# Altium schematic symbol library Glove.SchLib: 24 symbols
Pins are listed as number, name and electrical type; pins without a type are passive.

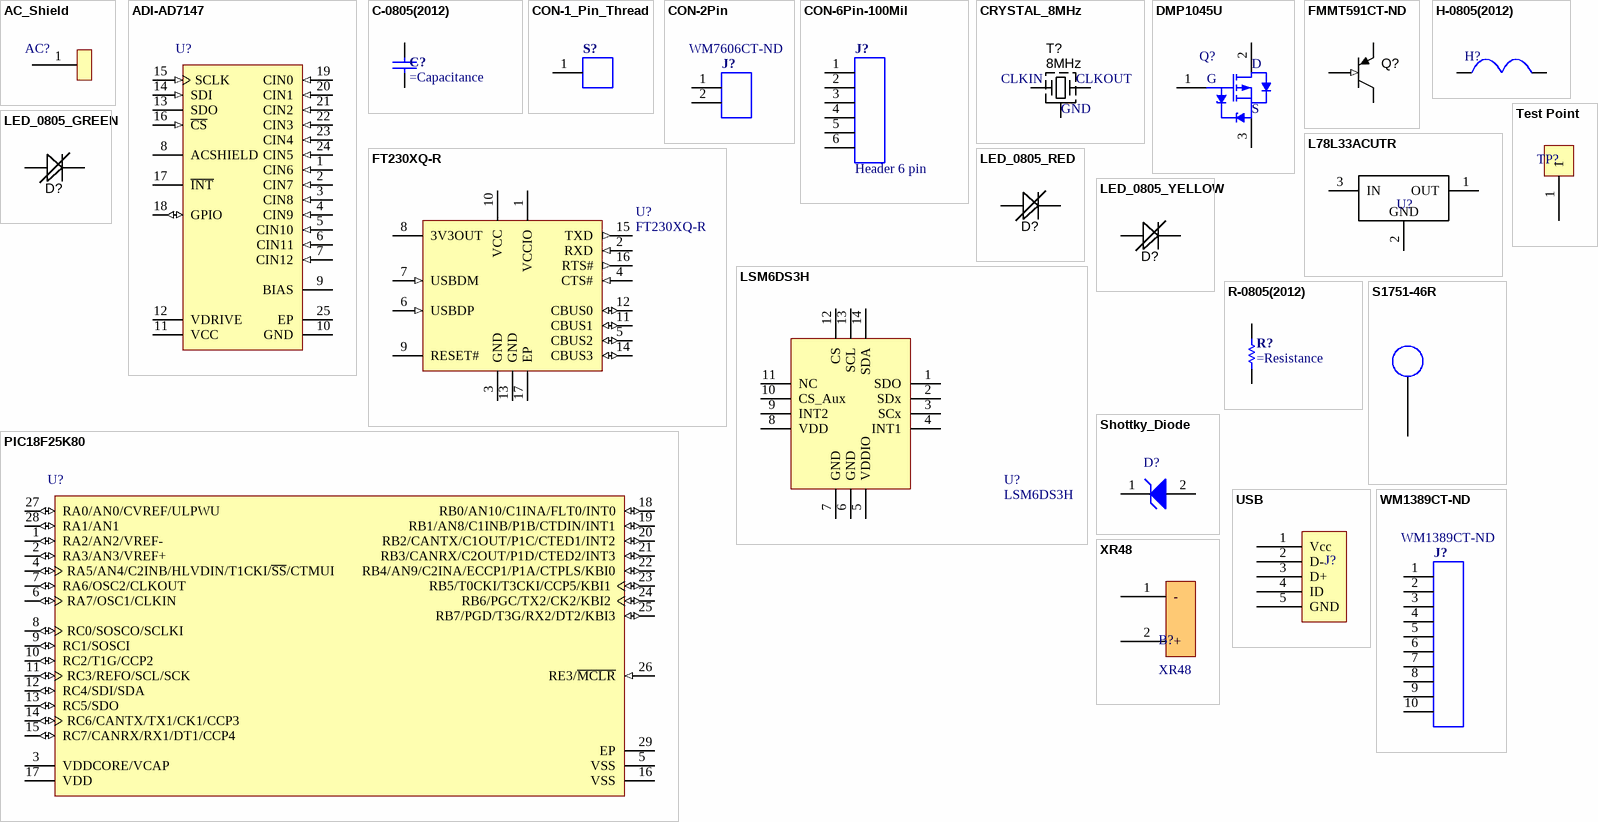
[diagram p0: symbols AC_Shield to XR48]

## AC_Shield
designator AC?  (value not drawn)
footprint AC_SHIELD
pins: 1 9

## ADI-AD7147
designator U?
Manufacturer: Analog Devices Inc.; Manufacturer Part Number: AD7147PACPZ-500R7; Resolution (Bits): 16 b; Sampling Rate (Per Second): 250k; Data Interface: SPI; Voltage Supply Source: Single Supply; Voltage - Supply: 2.6 V ~ 3.6 V; Supplier 1: Digi-Key; RoHS: RoHS Compliant; Category: Integrated Circuits (ICs); Stock 1: 559; Pricing 1: 1=3.6, 10=3.236, 100=2.6512 (USD); Packaging: Cut Tape (CT); Part Status: Active; Type: Capacitance-to-Digital Converter; Operating Temperature: -40°C ~ 85°C; Mounting Type: Surface Mount; Package / Case: 24-WFQFN Exposed Pad, CSP; Supplier Device Package: 24-LFCSP-WQ (4x4); ComponentLink1URL: http://www.analog.com/media/en/technical-documentation/data-sheets/AD7147.pdf; ComponentLink1Description: http://www.analog.com/media/en/technical-documentation/data-sheets/AD7147.pdf; Supplier Part Number 1: AD7147PACPZ-500R7CT-ND
footprint LFCSP_WQ (QFN, 24-Leads, Body 4x4mm, Pitch 0.5mm, Thermal Pad 2.5x2.5mm, IPC Medium Density)
pins: 1 CIN6 (in) "Capacitance Sensor Input.", 2 CIN7 (in) "Capacitance Sensor Input.", 3 CIN8 (in) "Capacitance Sensor Input.", 4 CIN9 (in) "Capacitance Sensor Input.", 5 CIN10 (in) "Capacitance Sensor Input.", 6 CIN11 (in) "Capacitance Sensor Input.", 7 CIN12 (in) "Capacitance Sensor Input.", 8 ACSHIELD "CDC Active Shield Output. Connect to external shield or plane.", 9 BIAS "Bias Node for Internal Circuitry. Requires 100 nF capacitor to ground.", 10 GND (power) "Ground Reference Point for All Circuitry.", 11 VCC (power) "Supply Voltage.", 12 VDRIVE (power) "Serial Interface Operating Voltage Supply.", 13 SDO (hiz) "SPI Serial Data Output.", 14 SDI (in) "SPI Serial Data Input.", 15 SCLK (in) "Clock Input for Serial Interface.", 16 ~{CS} (in) "SPI Chip Select Signal.", 17 ~{INT} (oc) "General-Purpose Open-Drain Interrupt Output. Programmable polarity; requires pull-up resistor.", 18 GPIO (io) "Programmable GPIO.", 19 CIN0 (in) "Capacitance Sensor Input.", 20 CIN1 (in) "Capacitance Sensor Input.", 21 CIN2 (in) "Capacitance Sensor Input.", 22 CIN3 (in) "Capacitance Sensor Input.", 23 CIN4 (in) "Capacitance Sensor Input.", 24 CIN5 (in) "Capacitance Sensor Input.", 25 EP (power) "Capacitance Sensor Input."

## C-0805(2012)
designator C?
___ OHM ___ mW 0805(2012) SMD
footprint CAP-0805(2012)-R (Capacitor 0805(2012) Reflow)
pins: 1, 2

## CON-1_Pin_Thread
designator S?, comment Conductive Thread  (value not drawn)
Header, 1 pin, Conductive Thread
footprint THREAD_HOLE (MAGNETIC_THREAD_HOLE)
pins: 1

## CON-2Pin
designator J?, comment Supplier Part Number 1: WM7606CT-ND  (hidden comment: Header 2 pin)
Header, 2 pin, .1 pitch; Manufacturer: Molex, LLC; Manufacturer Part Number: 0533980271; Pitch - Mating: 0.049" (1.25mm); Style: Board to Cable/Wire; Shrouding: Shrouded - 3 Wall; Number of Positions: 2; Number of Positions Loaded: All; Material Flammability Rating: UL94 V-0; Supplier 1: Digi-Key; RoHS: RoHS Compliant; Category: Connectors, Interconnects; Stock 1: 38010; Pricing 1: 1=1.07, 10=0.941, 25=0.886, 50=0.849, 100=0.8122, 250=0.73832, 500=0.66448 (USD); Packaging: Cut Tape (CT); Part Status: Active; Connector Type: Header; Contact Type: Male Blade; Number of Rows: 1; Row Spacing - Mating: -; Mounting Type: Surface Mount; Termination: Solder; Fastening Type: Detent Lock; Contact Length - Mating: -; Contact Length - Post: -; Overall Contact Length: -; Insulation Height: 0.185" (4.70mm); Contact Shape: Rectangular; Contact Finish - Mating: Tin; Contact Finish Thickness - Mating: 39µin (1.00µm); Features: Solder Retention; Ingress Protection: -; Insulation Color: Natural; Contact Finish - Post: Tin; Contact Material: Phosphor Bronze; Insulation Material: Polyamide (PA), Nylon; Operating Temperature: -; Current Rating: -; Voltage Rating: -; Mated Stacking Heights: -; Contact Finish Thickness - Post: -; Applications: Automotive, General Purpose, Industrial, Medical; ComponentLink1URL: http://www.molex.com/pdm_docs/sd/533980271_sd.pdf; ComponentLink1Description: http://www.molex.com/pdm_docs/sd/533980271_sd.pdf
footprint WM7606CT-ND
pins: 1, 2

## CON-6Pin-100Mil
designator J?, comment Header 6 pin
Header, 6 pin, .1 pitch; Manufacturer: Amphenol FCI; Manufacturer Part Number: 68000-406HLF; Pitch - Mating: 0.100" (2.54mm); Style: Board to Board; Shrouding: Unshrouded; Number of Positions: 6; Number of Positions Loaded: All; Contact Length - Mating: 0.230" (5.84mm); Contact Length - Post: 0.095" (2.41mm); Overall Contact Length: 0.425" (10.80mm); Material Flammability Rating: UL94 V-0; Supplier 1: Digi-Key; RoHS: RoHS Compliant; Category: Connectors, Interconnects; Stock 1: 11680; Pricing 1: 1=0.25, 10=0.233, 100=0.1615, 500=0.13662, 1000=0.11178, 5000=0.09936, 10000=0.09005 (USD); Packaging: Bulk; Part Status: Active; Connector Type: Header; Contact Type: Male Pin; Number of Rows: 1; Row Spacing - Mating: -; Mounting Type: Through Hole; Termination: Solder; Fastening Type: -; Insulation Height: 0.100" (2.54mm); Contact Shape: Square; Contact Finish - Mating: Tin; Contact Finish Thickness - Mating: 100µin (2.54µm); Contact Finish - Post: Tin; Contact Material: Phosphor Bronze; Insulation Material: -; Features: -; Operating Temperature: -; Ingress Protection: -; Insulation Color: Black; Current Rating: -; Voltage Rating: -; Mated Stacking Heights: -; Contact Finish Thickness - Post: -; Applications: -; ComponentLink1URL: http://portal.fciconnect.com/Comergent//fci/drawing/68000.pdf; ComponentLink1Description: http://portal.fciconnect.com/Comergent//fci/drawing/68000.pdf; Supplier Part Number 1: 609-3263-ND
footprint HEADER-6-100mil (100 mil spacing)
pins: 1, 2, 3, 4, 5, 6

## CRYSTAL_8MHz
designator T?, comment 8MHz
Oscillator Crystal 8MHz 10ppm; Manufacturer: Abracon LLC; Manufacturer Part Number: ABMM2-8.000MHZ-E2-T; Type: MHz Crystal; Frequency Stability: ±20ppm; Load Capacitance: 18pF; ESR (Equivalent Series Resistance): 72 Ohm; Operating Mode: Fundamental; Supplier 1: Digi-Key; RoHS: RoHS Compliant; Category: Crystals, Oscillators, Resonators; Stock 1: 56825; Pricing 1: 1=0.82, 10=0.721, 50=0.674, 100=0.5957, 500=0.5643 (USD); Packaging: Cut Tape (CT); Part Status: Active; Frequency: 8MHz; Frequency Tolerance: ±20ppm; Operating Temperature: -20°C ~ 70°C; Ratings: -; Mounting Type: Surface Mount; Package / Case: 4-SMD, No Lead; Size / Dimension: 0.240" L x 0.142" W (6.00mm x 3.60mm); Height - Seated (Max): 0.047" (1.20mm); ComponentLink1URL: http://www.abracon.com/Resonators/ABMM2.pdf; ComponentLink1Description: http://www.abracon.com/Resonators/ABMM2.pdf; Supplier Part Number 1: 535-9628-1-ND
footprint CRYSTAL-8MHZ (ABRACON ABMM2-8.000MHZ-E2-T)
pins: 1 CLKIN, 2 GND, 3 X
text: CLKOUT

## DMP1045U
designator Q?
Manufacturer: Diodes; Manufacturer Part Number: DMP1045U-7; Rise Time: 23.3ns; Rds On Max: 31mR; Input Capacitance: 1.357nF; Continuous Drain Current (ID): 4A; Drain to Source Voltage (Vdss): 12V; Max Power Dissipation: 800mW; Gate to Source Voltage (Vgs): 8V; Fall Time: 106.9ns; Turn-Off Delay Time: 91.2ns; Turn-On Delay Time: 15.7ns; Number of Elements: 1; Power Dissipation: 1.3W; Element Configuration: Single; Drain to Source Breakdown Voltage: -12V; Supplier 1: Mouser; Stock 1: 5719; Pricing 1: 1=0.43, 10=0.298, 50=0.298, 100=0.137, 1000=0.105, 10000=0.082 (USD); Mount: Surface Mount; Case/Package: SOT-23; Number of Pins: 3; Weight: 0.000282oz; Contact Plating: Tin; Min Operating Temperature: -55°C; Max Operating Temperature: 150°C; Package Quantity: 3000; Packaging: Tape and Reel; Drain to Source Resistance: 31mR; Number of Channels: 1; Length: 3mm; Height: 1.1mm; Width: 1.4mm; Radiation Hardening: No; REACH SVHC: No SVHC; Lead Free: Lead Free; ComponentLink1URL: https://datasheet.ciiva.com/11176/dmp1045u-11176581.pdf; ComponentLink1Description: https://datasheet.ciiva.com/11176/dmp1045u-11176581.pdf; ComponentLink2URL: https://datasheet.ciiva.com/17323/dmp1045u-17323644.pdf; ComponentLink2Description: https://datasheet.ciiva.com/17323/dmp1045u-17323644.pdf; ComponentLink3URL: https://datasheet.ciiva.com/18648/dmp1045u-18648300.pdf; ComponentLink3Description: https://datasheet.ciiva.com/18648/dmp1045u-18648300.pdf; Supplier Part Number 1: 621-DMP1045U-7
footprint SOT23-3 (SOT23, 3 pin)
pins: 1 G "gate", 2 D "drain", 3 S "source"

## FMMT591CT-ND
designator Q?
Transistor PNP; Manufacturer: Diodes Incorporated; Manufacturer Part Number: FMMT591TA; Current - Collector (Ic) (Max): 1A; Voltage - Collector Emitter Breakdown (Max): 60V; Vce Saturation (Max) @ Ib, Ic: 350mV @ 100mA, 1A; Current - Collector Cutoff (Max): 100nA; DC Current Gain (hFE) (Min) @ Ic, Vce: 100 @ 500mA, 5V; Power - Max: 500mW; Frequency - Transition: 150MHz; Supplier 1: Digi-Key; RoHS: RoHS Compliant; Category: Discrete Semiconductor Products; Stock 1: 2485; Pricing 1: 1=0.45, 10=0.363, 100=0.2472, 500=0.1854, 1000=0.13905 (USD); Packaging: Cut Tape (CT); Part Status: Active; Transistor Type: PNP; Operating Temperature: -55°C ~ 150°C (TJ); Mounting Type: Surface Mount; Package / Case: TO-236-3, SC-59, SOT-23-3; Supplier Device Package: SOT-23-3; ComponentLink1URL: http://www.diodes.com/_files/datasheets/FMMT591.pdf; ComponentLink1Description: http://www.diodes.com/_files/datasheets/FMMT591.pdf; Supplier Part Number 1: FMMT591CT-ND
footprint SOT23-3 (SOT23, 3 pin)
pins: 1 B (in), 2 C, 3 E

## FT230XQ-R
designator U?
USB to Basic UART Interface Chip, UHCI/OHCI/EHCI Compatible, USB 2.0 Compatible, -40 to +85 degC, 16-Pin QFN, Pb-Free, Tape and Reel; Manufacturer: FTDI, Future Technology Devices International Ltd; Function: Bridge, USB to UART; Standards: USB 2.0; Voltage - Supply: 3.3 V ~ 5 V; Current - Supply: 8mA; Supplier 1: Digi-Key; Manufacturer Part Number: FT230XQ-R; RoHS: RoHS Compliant; Category: Integrated Circuits (ICs); Stock 1: 40408; Pricing 1: 1=2.3, 25=1.97, 100=1.9, 250=1.71, 500=1.55, 1000=1.53001 (USD); Packaging: Cut Tape (CT); Part Status: Active; Protocol: USB; Interface: UART; Operating Temperature: -40°C ~ 85°C; Package / Case: 16-WQFN Exposed Pad; Supplier Device Package: 16-QFN (4x4); ComponentLink1URL: http://www.ftdichip.com/Support/Documents/DataSheets/ICs/DS_FT230X.pdf; ComponentLink1Description: http://www.ftdichip.com/Support/Documents/DataSheets/ICs/DS_FT230X.pdf; Supplier Part Number 1: 768-1130-1-ND
footprint QFN-16
pins: 1 VCCIO (power) "1V8 -3V3 supply for the IO cells.", 2 RXD (in) "Receiving Asynchronous Data Input.", 3 GND (power) "0V Ground input.", 4 CTS# (in) "Clear To Send Control Input / Handshake Signal.", 5 CBUS2 (io) "Configurable CBUS I/O Pin. Function of this pin is configured in the device MTP memory. The default configuration is TXLED#.", 6 USBDP (in) "USB Data Signal Plus.", 7 USBDM (in) "USB Data Signal Minus.", 8 3V3OUT (power) "3V3 output at 50mA. May be used to power VCCIO. When VCC is 3V3; pin 8 is an input pin and should be connected to pin 10.", 9 RESET# "Reset input (active low).", 10 VCC (power) "5 V (or 3V3) supply to IC.", 11 CBUS1 (io) "Configurable CBUS I/O Pin. Function of this pin is configured in the device MTP memory. The default configuration is RXLED#.", 12 CBUS0 (io) "Configurable CBUS I/O Pin. Function of this pin is configured in the device MTP memory. The default configuration is TXDEN.", 13 GND (power) "0V Ground input.", 14 CBUS3 (io) "Configurable CBUS I/O Pin. Function of this pin is configured in the device MTP memory. The default configuration is SLEEP#.", 15 TXD (out) "Transmit Asynchronous Data Output.", 16 RTS# (out) "Request to Send Control Output / Handshake Signal.", 17 EP (power) "Exposed Pad. Connect to GND."

## H-0805(2012)
designator H?  (value not drawn)
footprint H-0805(2012)-H (Inductor 0805(2012) Reflow)
pins: 1, 2

## L78L33ACUTR
designator U?  (value not drawn)
Manufacturer: STMicroelectronics; Manufacturer Part Number: L78L33ACUTR; Regulator Topology: Positive Fixed; Voltage - Output: 3.3V; Current - Output: 100mA; Voltage - Dropout (Typical): 1.7V @ 40mA; Voltage - Input: Up to 30V; Supplier 1: Digi-Key; RoHS: RoHS Compliant; Category: Integrated Circuits (ICs); Stock 1: 46216; Pricing 1: 1=0.43, 10=0.349, 100=0.2373, 500=0.17798, 1000=0.13349 (USD); Packaging: Cut Tape (CT); Part Status: Active; Current - Limit (Min): -; Operating Temperature: 0°C ~ 125°C; Mounting Type: Surface Mount; Package / Case: TO-243AA; Supplier Device Package: SOT-89-3; ComponentLink1URL: http://www.st.com/content/ccc/resource/technical/document/datasheet/15/55/e5/aa/23/5b/43/fd/CD00000446.pdf/files/CD00000446.pdf/jcr:content/translations/en.CD00000446.pdf; ComponentLink1Description: http://www.st.com/content/ccc/resource/technical/document/datasheet/15/55/e5/aa/23/5b/43/fd/CD00000446.pdf/files/CD00000446.pdf/jcr:content/translations/en.CD00000446.pdf; Supplier Part Number 1: 497-1200-1-ND
footprint SOT89-3 (JEDEC TO-243 option AA / SOT89)
pins: 1 OUT (power), 2 GND (power), 3 IN

## LED_0805_GREEN
designator D?, comment GREEN  (value not drawn)
LED, 0805 SMD, GREEN; Manufacturer: OSRAM Opto Semiconductors Inc.; Manufacturer Part Number: LG R971-KN-1; Lens Color: White; Lens Transparency: Diffused; Millicandela Rating: 26.05mcd; Lens Style/Size: Rectangle with Flat Top, 1.30mm x 1.25mm; Voltage - Forward (Vf) (Typ): 2.2V; Current - Test: 20mA; Viewing Angle: 160°; Wavelength - Dominant: 570nm; Wavelength - Peak: 572nm; Supplier 1: Digi-Key; RoHS: RoHS Compliant; Category: Optoelectronics; Stock 1: 332799; Pricing 1: 1=0.25, 10=0.18, 25=0.1328, 100=0.0948, 250=0.06448, 500=0.0569, 1000=0.04457 (USD); Packaging: Cut Tape (CT); Part Status: Active; Color: Green; Mounting Type: Surface Mount; Features: -; Package / Case: 0805 (2012 Metric); Size / Dimension: 2.00mm L x 1.25mm W; Height (Max): 0.90mm; ComponentLink1URL: http://www.osram-os.com/Graphics/XPic9/00078860_0.pdf; ComponentLink1Description: http://www.osram-os.com/Graphics/XPic9/00078860_0.pdf; Supplier Part Number 1: 475-1410-1-ND
footprint LED-0805-A
pins: A, K

## LED_0805_RED
designator D?, comment Red  (value not drawn)
LED, 0805 SMD, Red; Manufacturer: OSRAM Opto Semiconductors Inc.; Manufacturer Part Number: LS R976-NR-1; Lens Color: White; Lens Transparency: Diffused; Millicandela Rating: 104mcd; Lens Style/Size: Rectangle with Flat Top, 1.30mm x 1.25mm; Voltage - Forward (Vf) (Typ): 2V; Current - Test: 20mA; Viewing Angle: 160°; Wavelength - Dominant: 633nm; Wavelength - Peak: 645nm; Supplier 1: Digi-Key; RoHS: RoHS Compliant; Category: Optoelectronics; Stock 1: 162363; Pricing 1: 1=0.26, 10=0.19, 25=0.1396, 100=0.0998, 250=0.06788, 500=0.0599, 1000=0.04692 (USD); Packaging: Cut Tape (CT); Part Status: Active; Color: Red; Mounting Type: Surface Mount; Features: -; Package / Case: 0805 (2012 Metric); Size / Dimension: 2.00mm L x 1.25mm W; Height (Max): 0.90mm; ComponentLink1URL: http://www.osram-os.com/Graphics/XPic8/00078896_0.pdf; ComponentLink1Description: http://www.osram-os.com/Graphics/XPic8/00078896_0.pdf; Supplier Part Number 1: 475-1278-1-ND
footprint LED-0805-A
pins: A, K

## LED_0805_YELLOW
designator D?, comment YELLOW  (value not drawn)
LED, 0805 SMD, YELLOW; Manufacturer: OSRAM Opto Semiconductors Inc.; Manufacturer Part Number: LY R976-PS-36; Lens Color: White; Lens Transparency: Diffused; Millicandela Rating: 162.5mcd; Lens Style/Size: Rectangle with Flat Top, 1.30mm x 1.25mm; Voltage - Forward (Vf) (Typ): 2V; Current - Test: 20mA; Viewing Angle: 160°; Wavelength - Dominant: 588nm; Wavelength - Peak: 591nm; Supplier 1: Digi-Key; RoHS: RoHS Compliant; Category: Optoelectronics; Stock 1: 77170; Pricing 1: 1=0.26, 10=0.19, 25=0.1396, 100=0.0998, 250=0.06788, 500=0.0599, 1000=0.04692 (USD); Packaging: Cut Tape (CT); Part Status: Active; Color: Yellow; Mounting Type: Surface Mount; Features: -; Package / Case: 0805 (2012 Metric); Supplier Device Package: 0805; Size / Dimension: 2.00mm L x 1.25mm W; Height (Max): 0.90mm; ComponentLink1URL: http://www.osram-os.com/Graphics/XPic9/00078941_0.pdf; ComponentLink1Description: http://www.osram-os.com/Graphics/XPic9/00078941_0.pdf; Supplier Part Number 1: 475-2560-1-ND
footprint LED-0805-A
pins: A, K

## LSM6DS3H
designator U?
3D accelerometer and 3D gyroscope; Manufacturer: STMicroelectronics; Manufacturer Part Number: LSM6DS3HTR; Sensor Type: Accelerometer, Gyroscope, Temperature, 6 Axis; Output Type: I²C, SPI; Supplier 1: Digi-Key; RoHS: RoHS Compliant; Category: Sensors, Transducers; Stock 1: 34853; Pricing 1: 1=3.98, 10=3.572, 100=2.9264 (USD); Part Status: Active; Operating Temperature: -40°C ~ 85°C (TA); ComponentLink1URL: http://www.st.com/content/ccc/resource/technical/document/datasheet/group0/38/96/79/af/ab/62/42/c3/DM00229854/files/DM00229854.pdf/jcr:content/translations/en.DM00229854.pdf; ComponentLink1Description: http://www.st.com/content/ccc/resource/technical/document/datasheet/group0/38/96/79/af/ab/62/42/c3/DM00229854/files/DM00229854.pdf/jcr:content/translations/en.DM00229854.pdf; Supplier Part Number 1: 497-16367-1-ND
footprint LGA-14 (LGA-14 2.5X3X0.86 14L)
pins: 1 SDO, 2 SDx, 3 SCx, 4 INT1, 5 VDDIO, 6 GND, 7 GND, 8 VDD, 9 INT2, 10 CS_Aux, 11 NC, 12 CS, 13 SCL, 14 SDA

## PIC18F25K80
designator U?
Manufacturer: Microchip Technology; Manufacturer Part Number: PIC18F25K80T-I/MM; Core Processor: PIC; Core Size: 8-Bit; Speed: 64MHz; Connectivity: ECAN, I²C, LIN, SPI, UART/USART; Peripherals: Brown-out Detect/Reset, LVD, POR, PWM, WDT; Number of I/O: 24; Program Memory Size: 32KB (16K x 16); Program Memory Type: FLASH; EEPROM Size: 1K x 8; RAM Size: 3.6K x 8; Voltage - Supply (Vcc/Vdd): 1.8 V ~ 5.5 V; Data Converters: A/D 8x12b; Oscillator Type: Internal; Supplier 1: Digi-Key; RoHS: RoHS Compliant; Category: Integrated Circuits (ICs); Stock 1: 1981; Pricing 1: 1=2.86, 25=2.6264, 100=2.3793 (USD); Packaging: Cut Tape (CT); Part Status: Active; Operating Temperature: -40°C ~ 85°C (TA); Package / Case: 28-VQFN Exposed Pad; Supplier Device Package: 28-QFN-S (6x6); ComponentLink1URL: http://www.microchip.com/mymicrochip/filehandler.aspx?ddocname=en552714; ComponentLink1Description: http://www.microchip.com/mymicrochip/filehandler.aspx?ddocname=en552714; Supplier Part Number 1: PIC18F25K80T-I/MMCT-ND
footprint MCHP-QFN-S-MM28_N (QFN, 28-Leads, Body 6x6mm, Pitch 0.65mm, Thermal Pad 4.175x4.175mm, IPC Medium Density)
pins: 1 RA2/AN2/VREF- (io), 2 RA3/AN3/VREF+ (io), 3 VDDCORE/VCAP (power), 4 RA5/AN4/C2INB/HLVDIN/T1CKI/~{SS}/CTMUI (io), 5 VSS (power) "Ground reference for logic and I/O pins.", 6 RA7/OSC1/CLKIN (io), 7 RA6/OSC2/CLKOUT (io), 8 RC0/SOSCO/SCLKI (io), 9 RC1/SOSCI (io), 10 RC2/T1G/CCP2 (io), 11 RC3/REFO/SCL/SCK (io), 12 RC4/SDI/SDA (io), 13 RC5/SDO (io), 14 RC6/CANTX/TX1/CK1/CCP3 (io), 15 RC7/CANRX/RX1/DT1/CCP4 (io), 16 VSS (power) "Ground reference for logic and I/O pins.", 17 VDD (power) "Positive supply for logic and I/O pins.", 18 RB0/AN10/C1INA/FLT0/INT0 (io), 19 RB1/AN8/C1INB/P1B/CTDIN/INT1 (io), 20 RB2/CANTX/C1OUT/P1C/CTED1/INT2 (io), 21 RB3/CANRX/C2OUT/P1D/CTED2/INT3 (io), 22 RB4/AN9/C2INA/ECCP1/P1A/CTPLS/KBI0 (io), 23 RB5/T0CKI/T3CKI/CCP5/KBI1 (io), 24 RB6/PGC/TX2/CK2/KBI2 (io), 25 RB7/PGD/T3G/RX2/DT2/KBI3 (io), 26 RE3/~{MCLR} (in), 27 RA0/AN0/CVREF/ULPWU (io), 28 RA1/AN1 (io), 29 EP (power)

## R-0805(2012)
designator R?
___ OHM ___ mW 0805(2012) SMD
footprint R-0805(2012)-R (Resistor 0805(2012) Reflow)
pins: 1, 2

## S1751-46R
designator TP?
PC TEST POINT TIN SMD; Manufacturer: Harwin Inc.; Supplier 1: Digi-Key; RoHS: RoHS Compliant; Stock 1: 275112; Pricing 1: 1=0.29, 10=0.272, 25=0.2324, 50=0.2032, 100=0.1888, 250=0.167, 500=0.15972, 1000=0.13068 (USD); Packaging: Cut Tape (CT); Type: PC Test Point; Terminal: 0.128" x 0.065" x 0.079" (3.25mm x 1.65mm x 2.00mm) Brass, Tin Plated; Mounting Type: Surface Mount; Material: Copper Alloy; Color: Natural; ComponentLink1URL: http://cdn.harwin.com/pdfs/S1751.pdf; ComponentLink1Description: http://cdn.harwin.com/pdfs/S1751.pdf; Supplier Part Number 1: 952-1478-1-ND; Manufacturer Part Number: S1751-46R; Category: Test and Measurement
footprint S1751-46R (PC TEST POINT TIN SMD)
pins: 1

## Shottky_Diode
designator D?
BAT60AE6327HTSA1; Manufacturer: Infineon; Forward Voltage: 370mV; Forward Current: 3A; Reverse Voltage (DC): 10V; Peak Non-Repetitive Surge Current: 5A; Element Configuration: Single; Polarity: Standard; Supplier 1: Mouser; Manufacturer Part Number: BAT60AE6327HTSA1; Stock 1: 7383; Pricing 1: 1=0.42, 10=0.29, 50=0.29, 100=0.133, 1000=0.103, 10000=0.087 (USD); Mount: Surface Mount; Number of Pins: 2; Contact Plating: Tin; Min Operating Temperature: -55°C; Max Operating Temperature: 85°C; Packaging: Tape and Reel; Average Rectified Current: 3A; Max Repetitive Reverse Voltage (Vrrm): 10V; Voltage Rating (DC): 10V; Current Rating: 3A; Output Current: 3A; Radiation Hardening: No; REACH SVHC: No SVHC; Lead Free: Lead Free; ComponentLink1URL: https://datasheet.ciiva.com/8300/infineon-bat60aseries-ds-v01-01-en-8300325.pdf; ComponentLink1Description: https://datasheet.ciiva.com/8300/infineon-bat60aseries-ds-v01-01-en-8300325.pdf; ComponentLink2URL: https://datasheet.ciiva.com/26948/getdatasheetpartid-743048-26948826.pdf; ComponentLink2Description: https://datasheet.ciiva.com/26948/getdatasheetpartid-743048-26948826.pdf; Supplier Part Number 1: 726-BAT60AE6327
footprint SOD-323-2 (SOD, 2-Leads, Body 1.7x1.25mm)
pins: 1 K, 2 A

## Test Point
designator TP?  (value not drawn)
Test Point Hole; Manufacturer: Keystone Electronics; Manufacturer Part Number: 5000; Plating: Silver; Material - Insulation: Nylon 46, UL 94V-0; Material - Body: Phosphor Bronze; Supplier 1: Digi-Key; RoHS: RoHS Compliant; Category: Test and Measurement; Stock 1: 328374; Pricing 1: 1=0.37, 10=0.316, 50=0.2298, 100=0.2209, 250=0.19832, 500=0.18932, 1000=0.1616, 2500=0.14424, 5000=0.13523 (USD); Packaging: Bulk; Part Status: Active; Type: PC Test Point, Miniature; Mounting Type: 0.040" (1.02mm) Hole Diameter; Color: Red; Size / Dimension: 0.100" Dia x 0.180" L (2.54mm x 4.57mm); Height: -; ComponentLink1URL: http://www.keyelco.com/product-pdf.cfm?p=1309; ComponentLink1Description: http://www.keyelco.com/product-pdf.cfm?p=1309; Supplier Part Number 1: 36-5000-ND
footprint Test Point
pins: 1 "Test Point Hole 10mil"

## USB
designator J?  (value not drawn)
USB_Connector_5P_MICRO_USB_FCI; Manufacturer: Amphenol FCI; Manufacturer Part Number: 10118194-0001LF; Connector Type: USB - micro B; Number of Contacts: 5; Gender: Receptacle; Specifications: USB 2.0; Number of Ports: 1; Current Rating: 1.8A per Contact; Voltage - Rated: 100VAC; Mating Cycles: 10000; Shielding: Shielded; Material Flammability Rating: UL94 V-0; Supplier 1: Digi-Key; RoHS: RoHS Compliant; Category: Connectors, Interconnects; Stock 1: 267893; Pricing 1: 1=0.46, 10=0.437, 25=0.3744, 50=0.318, 100=0.3056, 250=0.27444, 500=0.26196 (USD); Packaging: Cut Tape (CT); Part Status: Active; Mounting Type: Surface Mount, Right Angle; Through Hole; Mounting Feature: Horizontal; Termination: Solder; Features: Solder Retention; Ingress Protection: -; Operating Temperature: -30°C ~ 80°C; Contact Finish: Gold; Shell/Shielding Material: Steel, Stainless; Insulation Color: Black; ComponentLink1URL: http://portal.fciconnect.com/Comergent//fci/drawing/10118194.pdf; ComponentLink1Description: http://portal.fciconnect.com/Comergent//fci/drawing/10118194.pdf; Supplier Part Number 1: 609-4618-1-ND
footprint USB_Connector_5P_MICRO_USB_FCI (USB_Connector_5P_MICRO_USB_FCI_TypeB)
pins: 1 Vcc, 2 D-, 3 D+, 4 ID, 5 GND

## WM1389CT-ND
designator J?, comment Supplier Part Number 1: WM1389CT-ND  (hidden comment: Header 10 pin)
Header, 10 pin, .50mm pitch; Manufacturer: Molex, LLC; Manufacturer Part Number: 5034801000; Flat Flex Type: FFC, FPC; Connector/Contact Type: Contacts, Top and Bottom; Number of Positions: 10; Pitch: 0.020" (0.50mm); FFC, FCB Thickness: 0.30mm; Locking Feature: Flip Lock, Backlock; Cable End Type: Straight, Tapered; Actuator Material: Polyamide (PA), Nylon, Glass Filled; Voltage Rating: 50V; Material Flammability Rating: UL94 V-0, UL94 HB; Current Rating: 0.5A; Actuator Color: Black; Supplier 1: Digi-Key; RoHS: RoHS Compliant; Category: Connectors, Interconnects; Stock 1: 7104; Pricing 1: 1=0.93, 10=0.821, 25=0.7728, 50=0.7406, 100=0.7083, 250=0.64396, 500=0.57954, 1000=0.51515 (USD); Packaging: Cut Tape (CT); Part Status: Active; Mounting Type: Surface Mount, Right Angle; Termination: Solder; Height Above Board: 0.039" (1.00mm); Contact Material: Phosphor Bronze; Contact Finish: Gold; Housing Material: Liquid Crystal Polymer (LCP), Glass Filled; Features: Solder Retention; Operating Temperature: -40°C ~ 85°C; Contact Finish Thickness: 3.9µin (0.10µm); Housing Color: White; Mating Cycles: 10; ComponentLink1URL: http://www.molex.com/pdm_docs/sd/5034801000_sd.pdf; ComponentLink1Description: http://www.molex.com/pdm_docs/sd/5034801000_sd.pdf
footprint MOLEX-503480-1000 (FPC Connector, 10-Leads, Right Angle, Pitch 0.5 mm, Mated Height 1.0 mm, SMT)
pins: 1, 2, 3, 4, 5, 6, 7, 8, 9, 10

## XR48
designator B?
footprint XR48 (Size 13 Coin Cell Battery)
pins: 1 -, 2 +